# EAGLE library part BQ40Z60 (library components)
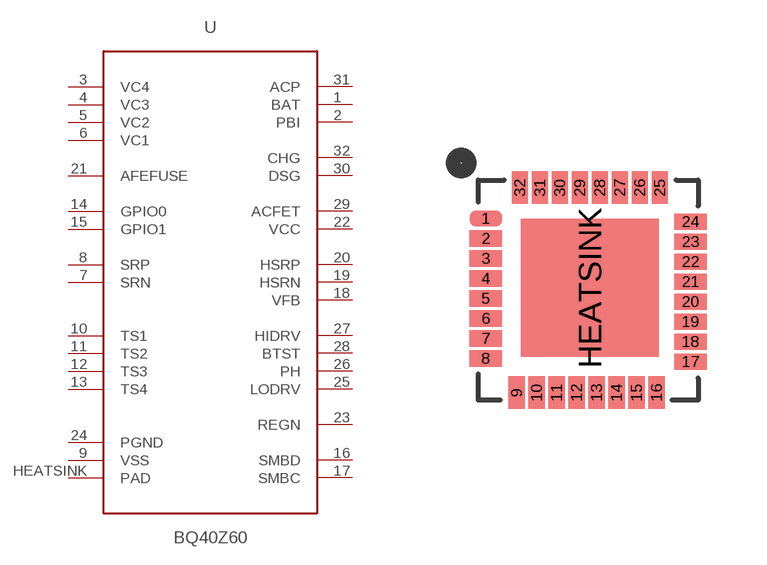
[diagram p1: symbol with the pads of QFN32; footprint QFN32]

Designator prefix -

## BQ40Z60  [QFN32]
1  BAT
2  PBI
3  VC4
4  VC3
5  VC2
6  VC1
7  SRN
8  SRP
9  VSS
10  TS1
11  TS2
12  TS3
13  TS4
14  GPIO0
15  GPIO1
16  SMBD
17  SMBC
18  VFB
19  HSRN
20  HSRP
21  AFEFUSE
22  VCC
23  REGN
24  PGND
25  LODRV
26  PH
27  HIDRV
28  BTST
29  ACFET
30  DSG
31  ACP
32  CHG
HEATSINK  PAD

## Footprint QFN32 (pad centres in mm)
smd 0.813 x 0.406: 1 -2.56,1.79; 2 -2.56,1.29; 3 -2.56,0.79; 4 -2.56,0.29; 5 -2.56,-0.21; 6 -2.56,-0.71; 7 -2.56,-1.21; 8 -2.56,-1.71; 17 2.56,-1.79; 18 2.56,-1.29; 19 2.56,-0.79; 20 2.56,-0.29; 21 2.56,0.21; 22 2.56,0.71; 23 2.56,1.21; 24 2.56,1.71
smd 0.406 x 0.813: 9 -1.79,-2.56; 10 -1.29,-2.56; 11 -0.79,-2.56; 12 -0.29,-2.56; 13 0.21,-2.56; 14 0.71,-2.56; 15 1.21,-2.56; 16 1.71,-2.56; 25 1.79,2.56; 26 1.29,2.56; 27 0.79,2.56; 28 0.29,2.56; 29 -0.21,2.56; 30 -0.71,2.56; 31 -1.21,2.56; 32 -1.71,2.56
smd 3.45 x 3.45: HEATSINK 0.04,0.06